# Altium schematic symbol library A6.SchLib: 1 symbol
Pins are listed as number, name and electrical type; pins without a type are passive.

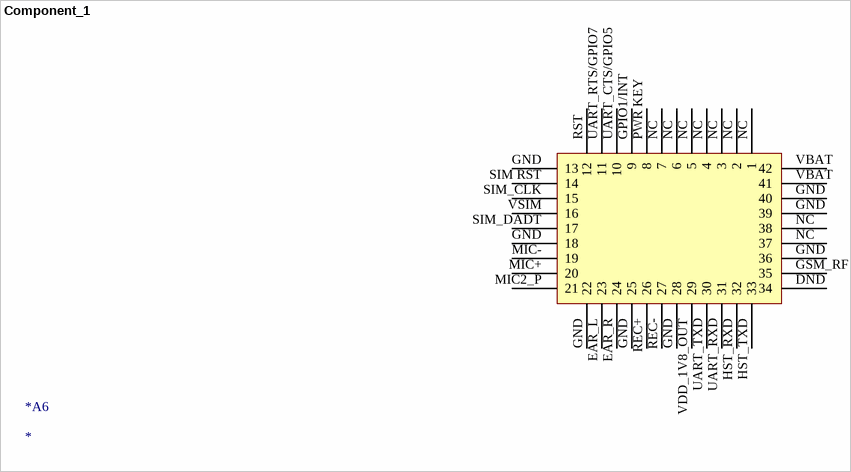
[diagram p0: symbol Component_1]

## Component_1
designator *A6
footprint PCBA6
footprint PCBA6
footprint Model Name (Footprint not found)
pins: DND 34, EAR_L 23, EAR_R 24, GND 13, GND 18, GND 22, GND 25, GND 28, GND 36, GND 39, GND 40, GPIO1/INT 9, GSM_RF 35, HST_RXD 32, HST_TXD 33, MIC2_P 21, MIC+ 20, MIC- 19, NC 1, NC 2, NC 3, NC 4, NC 5, NC 6, NC 7, NC 37, NC 38, PWR KEY 8, REC+ 26, REC- 27, RST 12, SIM RST 14, SIM_CLK 15, SIM_DADT 17, UART_CTS/GPIO5 10, UART_RTS/GPIO7 11, UART_RXD 31, UART_TXD 30, VBAT 41, VBAT 42, VDD_1V8_OUT 29, VSIM 16